# EAGLE library part NTB0102DP,125 (library NTB0102DP_125)
Translation - Voltage Levels 4.4ns 6.5V 250mW Source: Datasheet <http://uk.rs-online.com/web/p/products/8160554P>
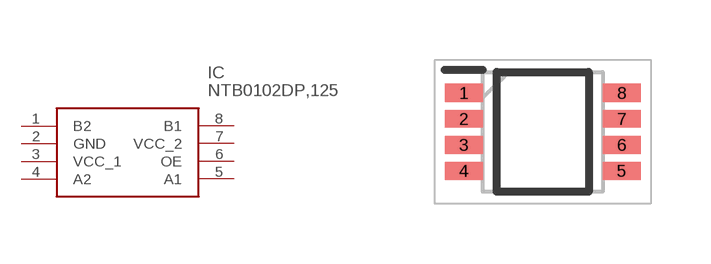
[diagram p0: symbol with the pads of SOP65P400X110-8N; footprint SOP65P400X110-8N]

Designator prefix IC

## NTB0102DP,125 (Description: Translation - Voltage Levels 4.4ns 6.5V 250mW; Height: 1.1mm; Manufacturer_Name: NXP; Manufacturer_Part_Number: NTB0102DP,125; RS_Part_Number: 8160554P; RS_Price-Stock: http://uk.rs-online.com/web/p/products/8160554P)  [SOP65P400X110-8N]
1  B2
2  GND
3  VCC_1
4  A2
5  A1
6  OE
7  VCC_2
8  B1

## Footprint SOP65P400X110-8N (pad centres in mm)
SOT505-2
smd 0.95 x 0.45: 1 -1.975,0.975; 2 -1.975,0.325; 3 -1.975,-0.325; 4 -1.975,-0.975; 5 1.975,-0.975; 6 1.975,-0.325; 7 1.975,0.325; 8 1.975,0.975